# Altium footprint library AU0006A.PcbLib: 42 footprints (part 2 of 3)
Each footprint in its own frame and in the unit in brackets; x right, y up, seen from the top. Pads: shape width x height; smd on the part's side, far side on the other; paste and mask are expansions set on the pad; w line width, h text height; cw(c..) or ccw(c..) is an arc to the next point about the centre after c.
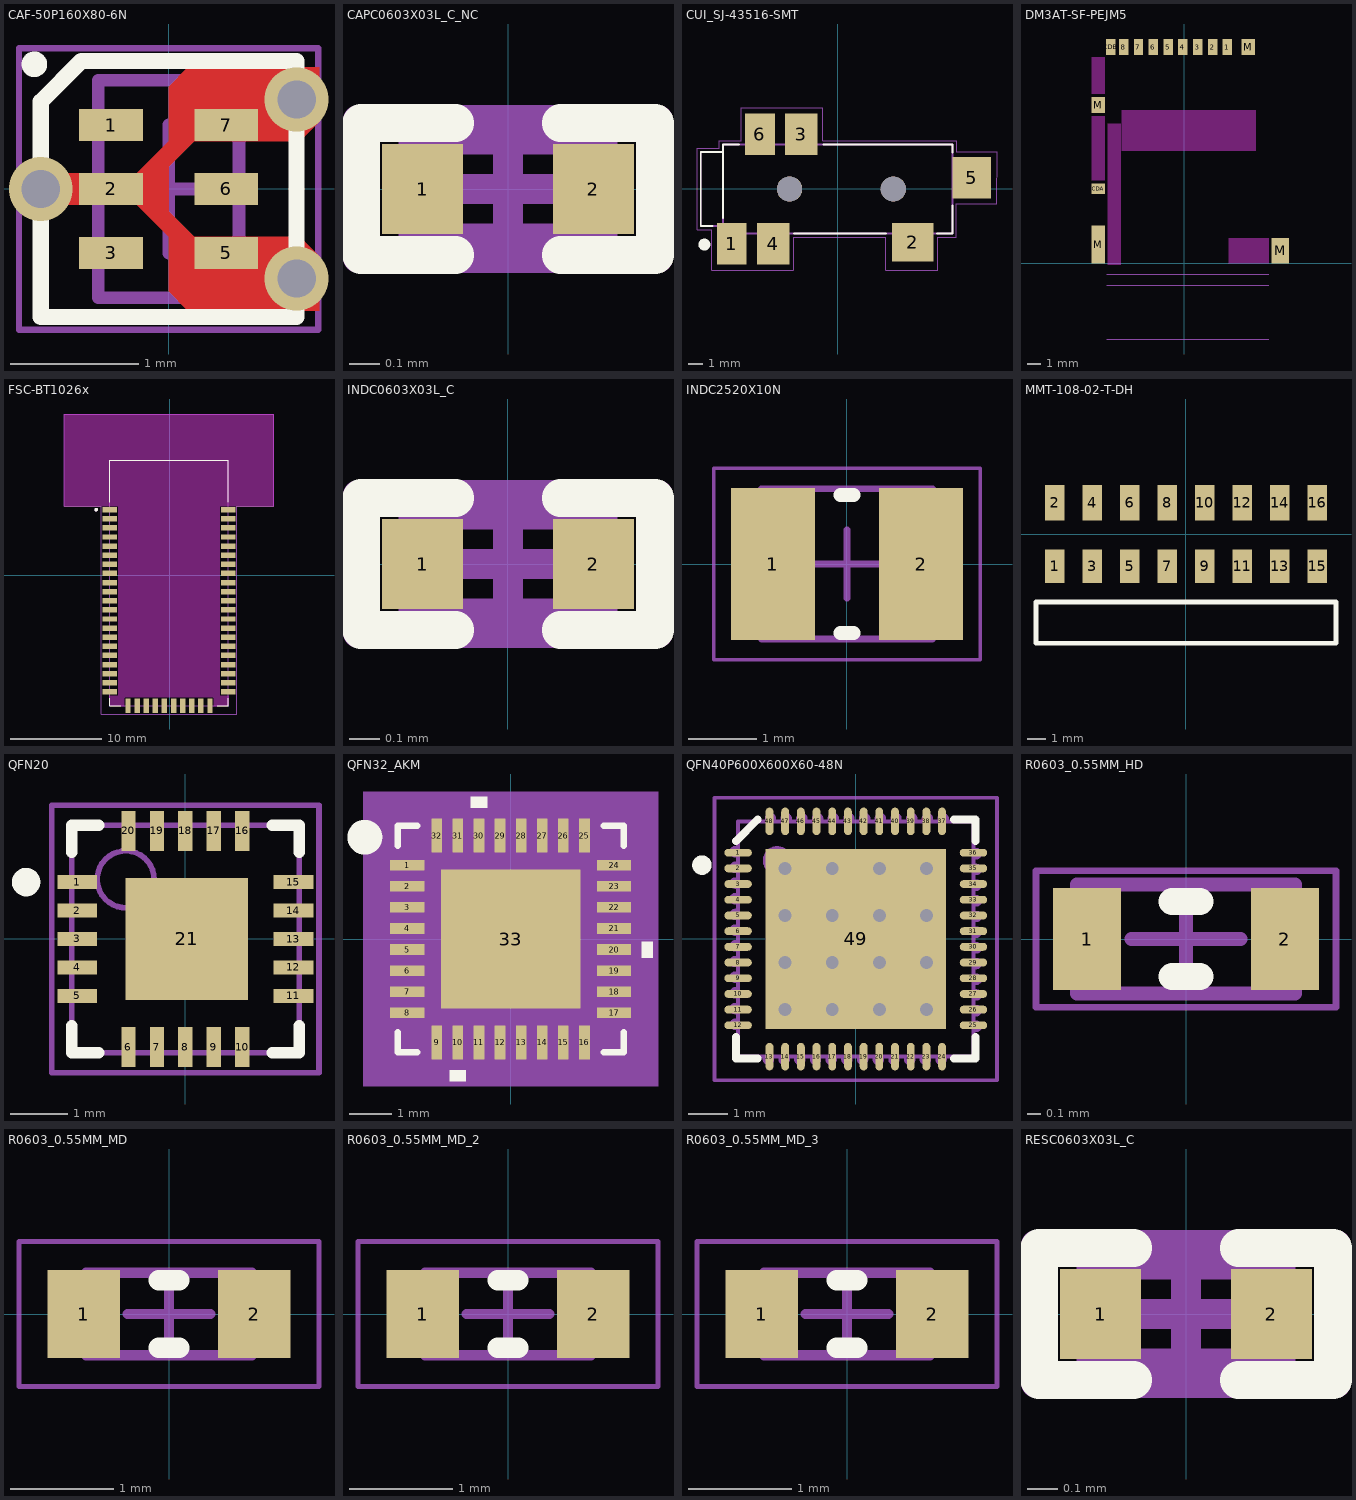
[diagram p1: the footprints below, top view; thin cyan lines are the x and y axes]

## CAF-50P160X80-6N [mm] "Chip Array, Flat, 6-Leads, Pitch 0,50mm,  Body 1,60x0,80mm,  IPC Medium Density"
height 0.7
pads (6):
  rect 0.5x0.25 smd mask+0.08: 1(-0.45,0.5) 2(-0.45,0) 3(-0.45,-0.5) 5(0.45,-0.5) 6(0.45,0) 7(0.45,0.5)
via 1,-0.7 diameter 0.5 hole 0.3
via 1,0.7 diameter 0.5 hole 0.3
via -1,0 diameter 0.5 hole 0.3
Top Layer:
  region: 1.025,0.375 0.2,0.375 0,0.175 0,-0.175 0.2,-0.375 1.025,-0.375 1.175,-0.525 1.175,-0.95 0.15,-0.95 0,-0.8 0,-0.375 -0.25,-0.125 -0.8,-0.125 -0.9,-0.225 -1,-0.225 -1,0.225 -0.9,0.225 -0.8,0.125 -0.25,0.125 0,0.375 0,0.8 0.15,0.95 1.175,0.95 1.175,0.525
Top Overlay:
  circle w0.1: c-1.05,0.975 r0.05
  lines w0.127: -1,-1 1,-1 1,1 -0.683,1 -1,0.683 -1,-1
Mechanical 13:
  lines w0.1: -0.55,-0.85 -0.55,0.85 0.55,0.85 0.55,-0.85 -0.55,-0.85
Mechanical 15:
  lines w0.05: -1.17,-1.1 -1.17,1.1 1.17,1.1 1.17,-1.1 -1.17,-1.1
  lines w0.1: -0.5,0 0.5,0 ; 0,-0.5 0,0.5
3D body: height 0.7, standoff 0, extent -0.087,0.725 0.088,0.875
3D body: height 0.7, standoff 0, extent -0.087,-0.875 0.088,-0.725
3D body: height 0.7, standoff 0.5, extent -0.087,0.15 0.088,0.45
3D body "CAF-50P160X80-6N.step": height 0.7, standoff 0, extent -0.525,-0.85 0.475,0.85

## CAPC0603X03L_C_NC [mm] "Chip Capacitor, 2-Leads, Body 0.6x0.3mm, IPC High Density"
height 0.33
pads (2):
  rect 0.27x0.3 smd mask+0.05: 1(-0.285,0) 2(0.285,0)
Top Overlay:
  lines w0.125: -0.175,-0.22 -0.49,-0.22 -0.49,0.22 -0.175,0.22 ; 0.175,-0.22 0.49,-0.22 0.49,0.22 0.175,0.22
Mechanical 7:
  lines w0.1: -0.315,-0.165 0.315,-0.165 0.315,0.165 -0.315,0.165 -0.315,-0.165
  text ".Designator" at -0.5,0.125 h0.3
Mechanical 15:
  lines w0.1: -0.165,0 0.165,0 ; 0,-0.165 0,0.165 ; -0.5,-0.23 0.5,-0.23 0.5,0.23 -0.5,0.23 -0.5,-0.23

## CUI_SJ-43516-SMT [mm]
height 3.1
pads (8):
  rect 2x2.8 smd: 1(-7.15,-3.7) 6(-5.25,3.7)
  rect 2.8x2.6 smd: 2(5.05,-3.6)
  rect 2.2x2.8 smd: 3(-2.45,3.7) 4(-4.35,-3.7)
  rect 2.6x2.8 smd: 5(9.05,0.75)
  round 1.7 hole 1.7 unplated: ""(-3.25,0) ""(3.75,0)
Top Overlay:
  circle w0.4: c-9,-3.75 r0.2
  lines w0.127: -8.45,-2.5 -9.25,-2.5 -9.25,2.5 -7.75,2.5 ; -7.75,-1.95 -7.75,2.5 ; -6.65,3 -7.75,3 -7.75,2.5 ; -2.95,-3 3.25,-3 ; -0.95,3 7.75,3 7.75,2.45 ; 6.7,-3 7.75,-3 7.75,-1.1
Mechanical 13:
  lines w0.127: -7.75,-2.5 -7.75,2.5 ; -7.75,-2.5 -7.75,-3 7.75,-3 7.75,3 -7.75,3 -7.75,2.5 ; -7.75,-2.5 -9.25,-2.5 -9.25,2.5 -7.75,2.5
Mechanical 15:
  lines w0.05: -9.5,-2.75 -8.5,-2.75 -8.5,-5.5 -3,-5.5 -3,-3.25 3.25,-3.25 3.25,-5.5 6.75,-5.5 6.75,-3.25 8,-3.25 8,-1 10.75,-1 10.75,2.5 8,2.5 8,3.25 -1,3.25 -1,5.5 -6.5,5.5 -6.5,3.25 -8,3.25 -8,2.75 -9.5,2.75 -9.5,-2.75
3D body "CUI - SJ-43514-SMT-TR.step": height 5.08, standoff -0.72, extent -9.446,-4.5 7.754,4.5

## DM3AT-SF-PEJM5 [mm] "Hirose DM3AT-SF-PEJM5 uSD connector - Normal Mount"
height 1.68
pads (14):
  rect 0.7x1.2 smd: 1(3.2,16.05) 2(2.1,16.05) 3(1,16.05) 4(-0.1,16.05) 5(-1.2,16.05) 6(-2.3,16.05) 7(-3.4,16.05) 8(-4.5,16.05) CDB(-5.45,16.05)
  rect 1x0.8 smd: CDA(-6.4,5.55)
  rect 1x2.8 smd: M(-6.4,1.4)
  rect 1x1.2 smd: M(-6.4,11.75) M(4.75,16.05)
  rect 1.3x1.9 smd: M(7.1,0.95)
Top Layer keep-out:
  rectangle: -4.648,8.35 5.325,11.4
  rectangle: -5.7,-0.101 -4.7,10.399
  rectangle: -6.9,6.171 -5.9,10.921
  rectangle: -6.9,12.573 -5.9,15.325
  rectangle: 3.275,0 6.275,1.9
Mechanical 1:
  lines w0.025: -5.75,-5.6 6.25,-5.6 ; -5.75,-1.6 6.25,-1.6 ; -5.75,-0.8 6.25,-0.8
  text "LOCK" at -6.875,-1.725 h0.25
  text "OVERSTROKE" at -8.35,-0.95 h0.25
  text "CARD EJECT" at -8.25,-5.725 h0.25
3D body "DM3AT-SF-PEJM5.stp": height 1.68, standoff 0, extent -6.494,0 7.356,16.15

## FSC-BT1026x [mm]
height 2
pads (52):
  rect 1.6x0.6 smd: 1(-6.575,7.2) 2(-6.575,6.2) 3(-6.575,5.2) 4(-6.575,4.2) 5(-6.575,3.2) 6(-6.575,2.2) 7(-6.575,1.2) 8(-6.575,0.2) 9(-6.575,-0.8) 10(-6.575,-1.8) 11(-6.575,-2.8) 12(-6.575,-3.8) 13(-6.575,-4.8) 14(-6.575,-5.8) 15(-6.575,-6.8) 16(-6.575,-7.8) 17(-6.575,-8.8) 18(-6.575,-9.8) 19(-6.575,-10.8) 20(-6.575,-11.8) 21(-6.575,-12.8) 32(6.425,-12.8) 33(6.425,-11.8) 34(6.425,-10.8) 35(6.425,-9.8) 36(6.425,-8.8) 37(6.425,-7.8) 38(6.425,-6.8) 39(6.425,-5.8) 40(6.425,-4.8) 41(6.425,-3.8) 42(6.425,-2.8) 43(6.425,-1.8) 44(6.425,-0.8) 45(6.425,0.2) 46(6.425,1.2) 47(6.425,2.2) 48(6.425,3.2) 49(6.425,4.2) 50(6.425,5.2) 51(6.425,6.2) 52(6.425,7.2)
  rect 0.6x1.6 smd: 22(-4.575,-14.3) 23(-3.575,-14.3) 24(-2.575,-14.3) 25(-1.575,-14.3) 26(-0.575,-14.3) 27(0.425,-14.3) 28(1.425,-14.3) 29(2.425,-14.3) 30(3.425,-14.3) 31(4.425,-14.3)
Top Overlay:
  circle w0.2: c-8.075,7.2 r0.1
  lines w0.127: -6.575,-13.5 -6.575,-14.3 -5.375,-14.3 ; -6.575,8 -6.575,12.6 6.425,12.6 6.425,8 ; 5.225,-14.3 6.425,-14.3 6.425,-13.5
Keep-Out Layer:
  region: 5.5,7.6 5.5,-13.225 6.475,-13.225 6.475,-14.35 4.85,-14.35 4.85,-13.375 -5,-13.375 -5,-14.35 -6.625,-14.35 -6.625,-13.225 -5.65,-13.225 -5.65,7.6
  region: -11.575,17.7 11.425,17.7 11.425,7.6 -11.575,7.6
Mechanical 13:
  circle w0.2: c-8.075,7.2 r0.1
  lines w0.127: -6.575,-14.3 6.425,-14.3 6.425,12.6 -6.575,12.6 -6.575,-14.3
Mechanical 15:
  lines w0.05: -11.575,7.6 -7.5,7.6 -7.5,-15.225 7.35,-15.225 7.35,7.6 11.425,7.6 11.425,17.7 -11.575,17.7 -11.575,7.6
3D body: height 2, standoff 0.01, extent -6.575,-14.3 6.425,12.6

## INDC0603X03L_C [mm] "Chip Inductor, 2-Leads, Body 0.6x0.3mm, IPC High Density"
height 0.33
pads (2):
  rect 0.27x0.3 smd: 1(-0.285,0) 2(0.285,0)
Top Overlay:
  lines w0.125: -0.175,-0.22 -0.49,-0.22 -0.49,0.22 -0.175,0.22 ; 0.175,-0.22 0.49,-0.22 0.49,0.22 0.175,0.22
Mechanical 7:
  lines w0.1: -0.315,-0.165 -0.315,0.165 0.315,0.165 0.315,-0.165 -0.315,-0.165
  text ".Designator" at 0.45,0.65 h0.3
Mechanical 15:
  lines w0.1: -0.165,0 0.165,0 ; 0,-0.165 0,0.165 ; -0.5,-0.23 -0.5,0.23 0.5,0.23 0.5,-0.23 -0.5,-0.23
3D body "User Library-smt_inductor-0201.step": height 0.26, standoff -0.01, extent -0.31,-0.16 0.31,0.16

## INDC2520X10N [mm] "Chip Inductor, 2-Leads, Body 2,50x2,00mm, IPC Medium Density"
height 1
pads (2):
  rect 1.23x2.22 smd: 1(-1.085,0) 2(1.085,0)
Top Overlay:
  lines w0.2: -0.1,-1.01 0.1,-1.01 ; -0.1,1.01 0.1,1.01
Mechanical 7:
  lines w0.1: -1.25,-1.1 1.25,-1.1 1.25,1.1 -1.25,1.1 -1.25,-1.1
  text ".Designator" at 0.314,0.159 h0.38
Mechanical 15:
  lines w0.05: -1.95,-1.4 1.95,-1.4 1.95,1.4 -1.95,1.4 -1.95,-1.4
  lines w0.1: -0.5,0 0.5,0 ; 0,-0.5 0,0.5
3D body "INDC2520X220N.STEP": height 1.98, standoff -0.02, extent -1.25,-1.1 1.25,1.1

## MMT-108-02-T-DH [mm]
height 3.1
pads (16):
  rect 1.016x1.778 smd: 1(-7,-1.7) 3(-5,-1.7) 5(-3,-1.7) 7(-1,-1.7) 9(1,-1.7) 11(3,-1.7) 13(5,-1.7) 15(7,-1.7)
  rect 1.016x1.905 smd: 2(-7,1.7) 4(-5,1.7) 6(-3,1.7) 8(-1,1.7) 10(1,1.7) 12(3,1.7) 14(5,1.7) 16(7,1.7)
Top Overlay:
  lines w0.254: -8,-5.8 8,-5.8 8,-3.6 -8,-3.6 -8,-5.8
3D body "MMT-108-01-T-DH.stp": height 4.03, standoff 0.03, extent -8,-8.9 8,2.523

## QFN20 [mm] "QFN, 20-Leads, Body 4.0x4.0mm (max), Pitch 0.50mm, IPC High Density"
height 0.8
pads (21):
  rect 0.7x0.25 smd: 1(-1.9,1) 2(-1.9,0.5) 3(-1.9,0) 4(-1.9,-0.5) 5(-1.9,-1) 11(1.9,-1) 12(1.9,-0.5) 13(1.9,0) 14(1.9,0.5) 15(1.9,1)
  rect 0.25x0.7 smd: 6(-1,-1.9) 7(-0.5,-1.9) 8(0,-1.9) 9(0.5,-1.9) 10(1,-1.9) 16(1,1.9) 17(0.5,1.9) 18(0,1.9) 19(-0.5,1.9) 20(-1,1.9)
  rect 2.15x2.15 smd paste-1.27: 21(0.025,0)
Top Overlay:
  circle w0.25: c-2.8,1 r0.125
  lines w0.2: -2,-1.525 -2,-2 -1.525,-2 ; -2,1.525 -2,2 -1.525,2 ; 1.525,-2 2,-2 2,-1.525 ; 1.525,2 2,2 2,1.525
Top Paste:
  rectangle: -0.9,0.725 -0.775,0.85
  rectangle: -0.65,0.725 -0.525,0.85
  rectangle: -0.65,0.5 -0.525,0.625
  rectangle: -0.9,0.5 -0.775,0.625
  rectangle: -0.4,0.5 -0.275,0.625
  rectangle: -0.15,0.5 -0.025,0.625
  rectangle: -0.15,0.725 -0.025,0.85
  rectangle: -0.4,0.725 -0.275,0.85
  rectangle: -0.4,0.275 -0.275,0.4
  rectangle: -0.15,0.275 -0.025,0.4
  rectangle: -0.15,0.05 -0.025,0.175
  rectangle: -0.4,0.05 -0.275,0.175
  rectangle: -0.9,0.05 -0.775,0.175
  rectangle: -0.65,0.05 -0.525,0.175
  rectangle: -0.65,0.275 -0.525,0.4
  rectangle: -0.9,0.275 -0.775,0.4
  rectangle: 0.1,0.275 0.225,0.4
  rectangle: 0.35,0.275 0.475,0.4
  rectangle: 0.35,0.05 0.475,0.175
  rectangle: 0.1,0.05 0.225,0.175
  rectangle: 0.6,0.05 0.725,0.175
  rectangle: 0.85,0.05 0.975,0.175
  rectangle: 0.85,0.275 0.975,0.4
  rectangle: 0.6,0.275 0.725,0.4
  rectangle: 0.6,0.725 0.725,0.85
  rectangle: 0.85,0.725 0.975,0.85
  rectangle: 0.85,0.5 0.975,0.625
  rectangle: 0.6,0.5 0.725,0.625
  rectangle: 0.1,0.5 0.225,0.625
  rectangle: 0.35,0.5 0.475,0.625
  rectangle: 0.35,0.725 0.475,0.85
  rectangle: 0.1,0.725 0.225,0.85
  rectangle: 0.1,-0.175 0.225,-0.05
  rectangle: 0.35,-0.175 0.475,-0.05
  rectangle: 0.35,-0.4 0.475,-0.275
  rectangle: 0.1,-0.4 0.225,-0.275
  rectangle: 0.6,-0.4 0.725,-0.275
  rectangle: 0.85,-0.4 0.975,-0.275
  rectangle: 0.85,-0.175 0.975,-0.05
  rectangle: 0.6,-0.175 0.725,-0.05
  rectangle: 0.6,-0.625 0.725,-0.5
  rectangle: 0.85,-0.625 0.975,-0.5
  rectangle: 0.85,-0.85 0.975,-0.725
  rectangle: 0.6,-0.85 0.725,-0.725
  rectangle: 0.1,-0.85 0.225,-0.725
  rectangle: 0.35,-0.85 0.475,-0.725
  rectangle: 0.35,-0.625 0.475,-0.5
  rectangle: 0.1,-0.625 0.225,-0.5
  rectangle: -0.9,-0.625 -0.775,-0.5
  rectangle: -0.65,-0.625 -0.525,-0.5
  rectangle: -0.65,-0.85 -0.525,-0.725
  rectangle: -0.9,-0.85 -0.775,-0.725
  rectangle: -0.4,-0.85 -0.275,-0.725
  rectangle: -0.15,-0.85 -0.025,-0.725
  rectangle: -0.15,-0.625 -0.025,-0.5
  rectangle: -0.4,-0.625 -0.275,-0.5
  rectangle: -0.4,-0.175 -0.275,-0.05
  rectangle: -0.15,-0.175 -0.025,-0.05
  rectangle: -0.15,-0.4 -0.025,-0.275
  rectangle: -0.4,-0.4 -0.275,-0.275
  rectangle: -0.9,-0.4 -0.775,-0.275
  rectangle: -0.65,-0.4 -0.525,-0.275
  rectangle: -0.65,-0.175 -0.525,-0.05
  rectangle: -0.9,-0.175 -0.775,-0.05
Mechanical 13:
  circle w0.1: c-1.05,1.05 r0.5
  lines w0.1: -2,-2 -2,2 2,2 2,-2 -2,-2
Mechanical 15:
  lines w0.1: -0.5,0 0.5,0 ; 0,-0.5 0,0.5 ; -2.35,-2.35 -2.35,2.35 2.35,2.35 2.35,-2.35 -2.35,-2.35
3D body: height 0.8, standoff 0.01, extent -1.943,-2 2.057,2

## QFN32_AKM [mil]
height 122.05
pads (33):
  rect 32x10 smd paste+0 mask+0: 1(-96.5,68.9) 2(-96.5,49.21) 3(-96.5,29.53) 4(-96.5,9.84) 5(-96.5,-9.84) 6(-96.5,-29.53) 7(-96.5,-49.21) 8(-96.5,-68.9) 17(96.5,-68.9) 18(96.5,-49.21) 19(96.5,-29.53) 20(96.5,-9.84) 21(96.5,9.84) 22(96.5,29.53) 23(96.5,49.21) 24(96.5,68.9)
  rect 10x32 smd paste+0 mask+0: 9(-68.9,-96.5) 10(-49.21,-96.5) 11(-29.53,-96.5) 12(-9.84,-96.5) 13(9.84,-96.5) 14(29.53,-96.5) 15(49.21,-96.5) 16(68.9,-96.5) 25(68.9,96.5) 26(49.21,96.5) 27(29.53,96.5) 28(9.84,96.5) 29(-9.84,96.5) 30(-29.53,96.5) 31(-49.21,96.5) 32(-68.9,96.5)
  rect 130x130 smd paste-64.5 mask+0: 33(0,0)
Top Overlay:
  circle w19.68: c-136,95 r6.4
  region: -22.03,122.5 -37.03,122.5 -37.03,132.5 -22.03,132.5
  region: 122.5,-2.34 132.5,-2.34 132.5,-17.34 122.5,-17.34
  region: -41.71,-122.5 -56.71,-122.5 -56.71,-132.5 -41.71,-132.5
  lines w6: -105.5,-87 -105.5,-105.5 -87,-105.5 ; -105.5,87 -105.5,105.5 -87,105.5 ; 87,-105.5 105.5,-105.5 105.5,-87 ; 87,105.5 105.5,105.5 105.5,87
Top Paste:
  region: 61.06,-3.94 3.94,-3.94 3.94,-61.06 61.06,-61.06
  region: 61.06,61.06 3.94,61.06 3.94,3.94 61.06,3.94
  region: -3.94,-3.94 -61.06,-3.94 -61.06,-61.06 -3.94,-61.06
  region: -3.94,61.06 -61.06,61.06 -61.06,3.94 -3.94,3.94
Route Tool Path:
  region: 137.5,-137.5 -137.5,-137.5 -137.5,137.5 137.5,137.5
Mechanical 13:
  lines w1: -100.5,50.5 -50.5,100.5 ; -100.5,-100.5 -100.5,100.5 100.5,100.5 100.5,-100.5 -100.5,-100.5 ; -100.5,-74.9 -100.5,-62.9 -100.5,-74.9 ; -100.5,-55.21 -100.5,-43.21 -100.5,-55.21 ; -100.5,-35.53 -100.5,-23.53 -100.5,-35.53 ; -100.5,-15.84 -100.5,-3.84 -100.5,-15.84 ; -100.5,3.84 -100.5,15.84 -100.5,3.84 ; -100.5,23.53 -100.5,35.53 -100.5,23.53 ; -100.5,43.21 -100.5,55.21 -100.5,43.21 ; -100.5,62.9 -100.5,74.9 -100.5,62.9 ; -74.9,-100.5 -62.9,-100.5 -74.9,-100.5 ; -74.9,100.5 -62.9,100.5 -74.9,100.5 ; -55.21,-100.5 -43.21,-100.5 -55.21,-100.5 ; -55.21,100.5 -43.21,100.5 -55.21,100.5 ; -35.53,-100.5 -23.53,-100.5 -35.53,-100.5 ; -35.53,100.5 -23.53,100.5 -35.53,100.5 ; -15.84,-100.5 -3.84,-100.5 -15.84,-100.5 ; -15.84,100.5 -3.84,100.5 -15.84,100.5 ; 3.84,-100.5 15.84,-100.5 3.84,-100.5 ; 3.84,100.5 15.84,100.5 3.84,100.5 ; 23.53,-100.5 35.53,-100.5 23.53,-100.5 ; 23.53,100.5 35.53,100.5 23.53,100.5 ; 43.21,-100.5 55.21,-100.5 43.21,-100.5 ; 43.21,100.5 55.21,100.5 43.21,100.5 ; 62.9,-100.5 74.9,-100.5 62.9,-100.5 ; 62.9,100.5 74.9,100.5 62.9,100.5 ; 100.5,-74.9 100.5,-62.9 100.5,-74.9 ; 100.5,-55.21 100.5,-43.21 100.5,-55.21 ; 100.5,-35.53 100.5,-23.53 100.5,-35.53 ; 100.5,-15.84 100.5,-3.84 100.5,-15.84 ; 100.5,3.84 100.5,15.84 100.5,3.84 ; 100.5,23.53 100.5,35.53 100.5,23.53 ; 100.5,43.21 100.5,55.21 100.5,43.21 ; 100.5,62.9 100.5,74.9 100.5,62.9
  text "*" at -93,53.74 h50
Mechanical 15:
  region: -83.9,-110.5 -110.5,-110.5 -110.5,-83.9 -122.5,-83.9 -122.5,83.9 -110.5,83.9 -110.5,110.5 -83.9,110.5 -83.9,122.5 83.9,122.5 83.9,110.5 110.5,110.5 110.5,83.9 122.5,83.9 122.5,-83.9 110.5,-83.9 110.5,-110.5 83.9,-110.5 83.9,-122.5 -83.9,-122.5
  lines w6: -122.5,-83.9 -122.5,83.9 -110.5,83.9 -110.5,110.5 -83.9,110.5 -83.9,122.5 83.9,122.5 83.9,110.5 110.5,110.5 110.5,83.9 122.5,83.9 122.5,-83.9 110.5,-83.9 110.5,-110.5 83.9,-110.5 83.9,-122.5 -83.9,-122.5 -83.9,-110.5 -110.5,-110.5 -110.5,-83.9 -122.5,-83.9
3D body "QFN32_AKM.step": height 32.09, standoff 0, extent -100.51,-100.51 100.51,100.51

## QFN40P600X600X60-48N [mm] "QFN, 48-Leads, Body 6.1x6.1mm (max), Pitch 0.40mm, IPC Medium Density"
height 0.6
pads (49):
  oval 0.7x0.2 smd mask+0.06: 1(-3,2.2) 2(-3,1.8) 3(-3,1.4) 4(-3,1) 5(-3,0.6) 6(-3,0.2) 7(-3,-0.2) 8(-3,-0.6) 9(-3,-1) 10(-3,-1.4) 11(-3,-1.8) 12(-3,-2.2) 25(3,-2.2) 26(3,-1.8) 27(3,-1.4) 28(3,-1) 29(3,-0.6) 30(3,-0.2) 31(3,0.2) 32(3,0.6) 33(3,1) 34(3,1.4) 35(3,1.8) 36(3,2.2)
  oval 0.2x0.7 smd mask+0.06: 13(-2.2,-3) 14(-1.8,-3) 15(-1.4,-3) 16(-1,-3) 17(-0.6,-3) 18(-0.2,-3) 19(0.2,-3) 20(0.6,-3) 21(1,-3) 22(1.4,-3) 23(1.8,-3) 24(2.2,-3) 37(2.2,3) 38(1.8,3) 39(1.4,3) 40(1,3) 41(0.6,3) 42(0.2,3) 43(-0.2,3) 44(-0.6,3) 45(-1,3) 46(-1.4,3) 47(-1.8,3) 48(-2.2,3)
  rect 4.6x4.6 smd paste-0.5: 49(0,0)
via -1.8,1.8 diameter 0.66 hole 0.33
via -0.6,1.8 diameter 0.66 hole 0.33
via 0.6,1.8 diameter 0.66 hole 0.33
via 1.8,1.8 diameter 0.66 hole 0.33
via -1.8,0.6 diameter 0.66 hole 0.33
via -0.6,0.6 diameter 0.66 hole 0.33
via 0.6,0.6 diameter 0.66 hole 0.33
via 1.8,0.6 diameter 0.66 hole 0.33
via -1.8,-0.6 diameter 0.66 hole 0.33
via -0.6,-0.6 diameter 0.66 hole 0.33
via 0.6,-0.6 diameter 0.66 hole 0.33
via 1.8,-0.6 diameter 0.66 hole 0.33
via -1.8,-1.8 diameter 0.66 hole 0.33
via -0.6,-1.8 diameter 0.66 hole 0.33
via 0.6,-1.8 diameter 0.66 hole 0.33
via 1.8,-1.8 diameter 0.66 hole 0.33
Top Overlay:
  circle w0.25: c-3.922,1.884 r0.125
  lines w0.2: -3.05,-2.5 -3.05,-3.05 -2.5,-3.05 ; -3.05,2.5 -2.5,3.05 ; 2.5,-3.05 3.05,-3.05 3.05,-2.5 ; 2.5,3.05 3.05,3.05 3.05,2.5
Mechanical 7:
  circle w0.1: c-2,2 r0.32
  lines w0.1: -3,-2.269 -3.071,-2.269 cw(c-3.071,-2.174) -3.071,-2.079 -3,-2.079 ; -3,-1.869 -3.071,-1.869 cw(c-3.071,-1.774) -3.071,-1.679 -3,-1.679 ; -3,-1.469 -3.071,-1.469 cw(c-3.071,-1.374) -3.071,-1.279 -3,-1.279 ; -3,-1.069 -3.071,-1.069 cw(c-3.071,-0.974) -3.071,-0.879 -3,-0.879 ; -3,-0.669 -3.071,-0.669 cw(c-3.071,-0.574) -3.071,-0.479 -3,-0.479 ; -3,-0.269 -3.071,-0.269 cw(c-3.071,-0.174) -3.071,-0.079 -3,-0.079 ; -3,0.131 -3.071,0.131 cw(c-3.071,0.226) -3.071,0.321 -3,0.321 ; -3,0.531 -3.071,0.531 cw(c-3.071,0.626) -3.071,0.721 -3,0.721 ; -3,0.931 -3.071,0.931 cw(c-3.071,1.026) -3.071,1.121 -3,1.121 ; -3,1.331 -3.071,1.331 cw(c-3.071,1.426) -3.071,1.521 -3,1.521 ; -3,1.731 -3.071,1.731 cw(c-3.071,1.826) -3.071,1.921 -3,1.921 ; -3,2.131 -3.071,2.131 cw(c-3.071,2.226) -3.071,2.321 -3,2.321 ; -2.321,-3 -2.321,-3.071 ccw(c-2.226,-3.071) -2.131,-3.071 -2.131,-3 ; -2.269,3 -2.269,3.071 cw(c-2.174,3.071) -2.079,3.071 -2.079,3 ; -1.921,-3 -1.921,-3.071 ccw(c-1.826,-3.071) -1.731,-3.071 -1.731,-3 ; -1.869,3 -1.869,3.071 cw(c-1.774,3.071) -1.679,3.071 -1.679,3 ; -1.521,-3 -1.521,-3.071 ccw(c-1.426,-3.071) -1.331,-3.071 -1.331,-3 ; -1.469,3 -1.469,3.071 cw(c-1.374,3.071) -1.279,3.071 -1.279,3 ; -1.121,-3 -1.121,-3.071 ccw(c-1.026,-3.071) -0.931,-3.071 -0.931,-3 ; -1.069,3 -1.069,3.071 cw(c-0.974,3.071) -0.879,3.071 -0.879,3 ; -0.721,-3 -0.721,-3.071 ccw(c-0.626,-3.071) -0.531,-3.071 -0.531,-3 ; -0.669,3 -0.669,3.071 cw(c-0.574,3.071) -0.479,3.071 -0.479,3 ; -0.321,-3 -0.321,-3.071 ccw(c-0.226,-3.071) -0.131,-3.071 -0.131,-3 ; -0.269,3 -0.269,3.071 cw(c-0.174,3.071) -0.079,3.071 -0.079,3 ; 0.079,-3 0.079,-3.071 ccw(c0.174,-3.071) 0.269,-3.071 0.269,-3 ; 0.131,3 0.131,3.071 cw(c0.226,3.071) 0.321,3.071 0.321,3 ; 0.479,-3 0.479,-3.071 ccw(c0.574,-3.071) 0.669,-3.071 0.669,-3 ; 0.531,3 0.531,3.071 cw(c0.626,3.071) 0.721,3.071 0.721,3 ; 0.879,-3 0.879,-3.071 ccw(c0.974,-3.071) 1.069,-3.071 1.069,-3 ; 0.931,3 0.931,3.071 cw(c1.026,3.071) 1.121,3.071 1.121,3 ; 1.279,-3 1.279,-3.071 ccw(c1.374,-3.071) 1.469,-3.071 1.469,-3 ; 1.331,3 1.331,3.071 cw(c1.426,3.071) 1.521,3.071 1.521,3 ; 1.679,-3 1.679,-3.071 ccw(c1.774,-3.071) 1.869,-3.071 1.869,-3 ; 1.731,3 1.731,3.071 cw(c1.826,3.071) 1.921,3.071 1.921,3 ; 2.079,-3 2.079,-3.071 ccw(c2.174,-3.071) 2.269,-3.071 2.269,-3 ; 2.131,3 2.131,3.071 cw(c2.226,3.071) 2.321,3.071 2.321,3 ; 3,-2.321 3.071,-2.321 ccw(c3.071,-2.226) 3.071,-2.131 3,-2.131 ; 3,-1.921 3.071,-1.921 ccw(c3.071,-1.826) 3.071,-1.731 3,-1.731 ; 3,-1.521 3.071,-1.521 ccw(c3.071,-1.426) 3.071,-1.331 3,-1.331 ; 3,-1.121 3.071,-1.121 ccw(c3.071,-1.026) 3.071,-0.931 3,-0.931 ; 3,-0.721 3.071,-0.721 ccw(c3.071,-0.626) 3.071,-0.531 3,-0.531 ; 3,-0.321 3.071,-0.321 ccw(c3.071,-0.226) 3.071,-0.131 3,-0.131 ; 3,0.079 3.071,0.079 ccw(c3.071,0.174) 3.071,0.269 3,0.269 ; 3,0.479 3.071,0.479 ccw(c3.071,0.574) 3.071,0.669 3,0.669 ; 3,0.879 3.071,0.879 ccw(c3.071,0.974) 3.071,1.069 3,1.069 ; 3,1.279 3.071,1.279 ccw(c3.071,1.374) 3.071,1.469 3,1.469 ; 3,1.679 3.071,1.679 ccw(c3.071,1.774) 3.071,1.869 3,1.869 ; 3,2.079 3.071,2.079 ccw(c3.071,2.174) 3.071,2.269 3,2.269 ; -3,-3 3,-3 3,3 -3,3 -3,-3
  text ".Designator" at 0.578,0.734 h0.38
Mechanical 15:
  lines w0.1: -0.5,0 0.5,0 ; 0,-0.5 0,0.5 ; -3.6,-3.6 3.6,-3.6 3.6,3.6 -3.6,3.6 -3.6,-3.6
3D body "User Library-QFN48.step": height 0.86, standoff -0.01, extent -3.02,-3.02 3.02,3.02

## R0603_0.55MM_HD [mm] "Resistor 0603 High Density"
height 0.55
pads (2):
  rect 0.5x0.75 smd: 1(-0.725,0) 2(0.725,0)
Top Overlay:
  lines w0.2: -0.1,-0.275 0.1,-0.275 ; -0.1,0.275 0.1,0.275
Mechanical 13:
  lines w0.1: -0.8,-0.4 0.8,-0.4 0.8,0.4 -0.8,0.4 -0.8,-0.4
Mechanical 15:
  lines w0.05: -1.1,-0.5 1.1,-0.5 1.1,0.5 -1.1,0.5 -1.1,-0.5
  lines w0.1: -0.4,0 0.4,0 ; 0,-0.4 0,0.4
3D body "RESC1608X06L.step": height 0.55, standoff 0, extent -0.8,-0.4 0.8,0.4

## R0603_0.55MM_MD [mm] "Resistor 0603 Medium Density"
height 0.55
pads (2):
  rect 0.7x0.85 smd: 1(-0.825,0) 2(0.825,0)
Top Overlay:
  lines w0.2: -0.1,-0.325 0.1,-0.325 ; -0.1,0.325 0.1,0.325
Mechanical 13:
  lines w0.1: -0.8,-0.4 0.8,-0.4 0.8,0.4 -0.8,0.4 -0.8,-0.4
Mechanical 15:
  lines w0.05: -1.45,-0.7 1.45,-0.7 1.45,0.7 -1.45,0.7 -1.45,-0.7
  lines w0.1: -0.4,0 0.4,0 ; 0,-0.4 0,0.4
3D body "RESC1608X06N.step": height 0.55, standoff 0, extent -0.8,-0.4 0.8,0.4

## R0603_0.55MM_MD_2 [mm]
pads (2):
  rect 0.7x0.85 smd: 1(-0.825,0) 2(0.825,0)
Top Overlay:
  lines w0.2: -0.1,-0.325 0.1,-0.325 ; -0.1,0.325 0.1,0.325
Mechanical 13:
  lines w0.1: -0.8,-0.4 0.8,-0.4 0.8,0.4 -0.8,0.4 -0.8,-0.4
Mechanical 15:
  lines w0.05: -1.45,-0.7 1.45,-0.7 1.45,0.7 -1.45,0.7 -1.45,-0.7
  lines w0.1: -0.4,0 0.4,0 ; 0,-0.4 0,0.4
3D body "RESC1608X06N.step": height 0.55, standoff 0, extent -0.8,-0.4 0.8,0.4

## R0603_0.55MM_MD_3 [mm]
pads (2):
  rect 0.7x0.85 smd: 1(-0.825,0) 2(0.825,0)
Top Overlay:
  lines w0.2: -0.1,-0.325 0.1,-0.325 ; -0.1,0.325 0.1,0.325
Mechanical 13:
  lines w0.1: -0.8,-0.4 0.8,-0.4 0.8,0.4 -0.8,0.4 -0.8,-0.4
Mechanical 15:
  lines w0.05: -1.45,-0.7 1.45,-0.7 1.45,0.7 -1.45,0.7 -1.45,-0.7
  lines w0.1: -0.4,0 0.4,0 ; 0,-0.4 0,0.4
3D body "RESC1608X06N.step": height 0.55, standoff 0, extent -0.8,-0.4 0.8,0.4

## RESC0603X03L_C [mm] "Chip Resistor, 2-Leads, Body 0.6x0.3mm, IPC High Density"
height 0.33
pads (2):
  rect 0.27x0.3 smd: 1(-0.285,0) 2(0.285,0)
Top Overlay:
  lines w0.125: -0.175,-0.22 -0.49,-0.22 -0.49,0.22 -0.175,0.22 ; 0.175,-0.22 0.49,-0.22 0.49,0.22 0.175,0.22
Mechanical 7:
  lines w0.1: -0.315,-0.165 -0.315,0.165 0.315,0.165 0.315,-0.165 -0.315,-0.165
  text ".Designator" at 0.325,0.6 h0.3
Mechanical 15:
  lines w0.1: -0.165,0 0.165,0 ; 0,-0.165 0,0.165 ; -0.5,-0.23 -0.5,0.23 0.5,0.23 0.5,-0.23 -0.5,-0.23
3D body "User Library-res0201-1.step": height 0.23, standoff 0, extent -0.3,-0.15 0.3,0.15